# Altium integrated library Panasonic Microcontroller 32-Bit ARM.IntLib: 1 symbol
Pins are listed as number, name and electrical type; pins without a type are passive.

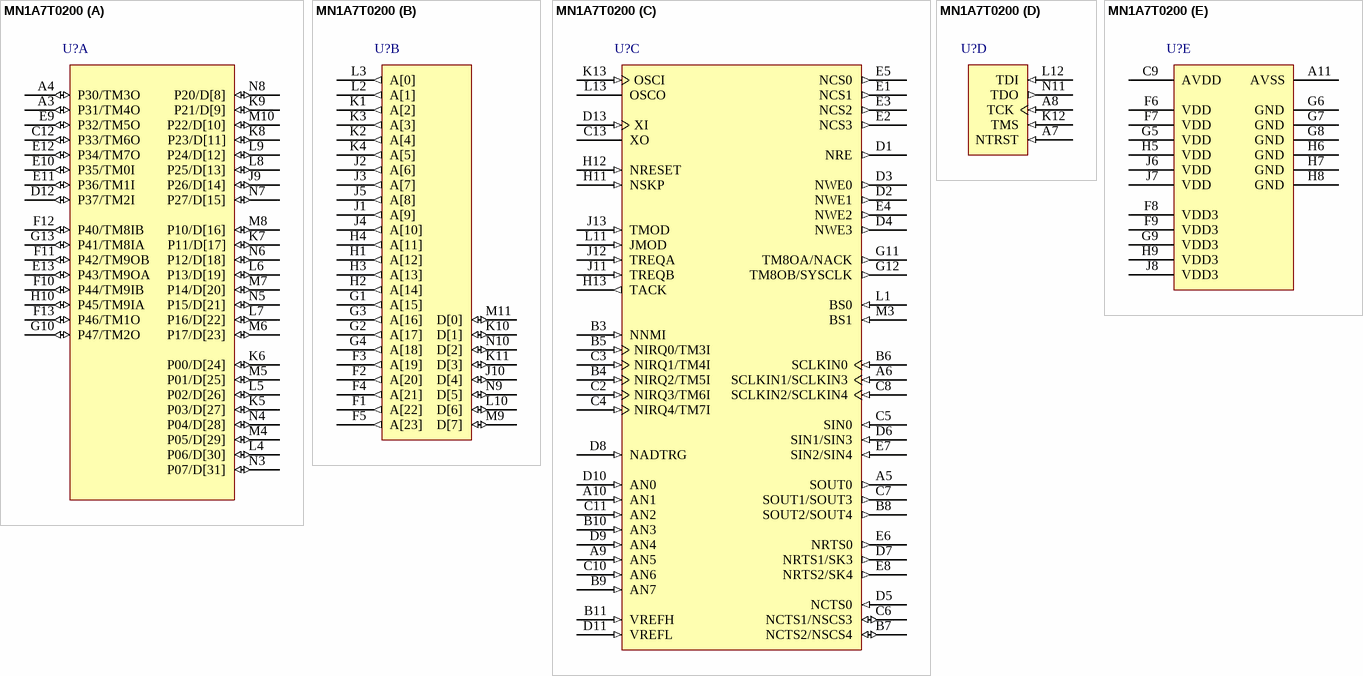
[diagram p0: symbol MN1A7T0200]

## MN1A7T0200
designator U?
ARM7TDMI with 32-bit ARM or 16-bit THUMB state operation, 152-pad FLGA; Published: 12-Dec-2006; DatasheetVersion: Sep-2001; PackageVersion: Sep-2001; PackageReference: FLGA152-C-1111; Publisher: Altium Limited; PackageDescription: 152-Ball Ball Grid Array 0.8 mm Pitch; ComponentLink1Description: Manufacturer Link; ComponentLink1URL: http://www.panasonic.co.jp/semicon/e-index.html; ComponentLink2Description: Datasheet; ComponentLink2URL: https://www.semicon.panasonic.co.jp/micom/manual/pdf/26002-024e.pdf
footprint FLGA152-C-1111 (BGA, 152-Leads, Body 11x11mm, Pitch 0.8mm)
part A pins: A3 P31/TM4O (io), A4 P30/TM3O (io), C12 P33/TM6O (io), D12 P37/TM2I (io), E9 P32/TM5O (io), E10 P35/TM0I (io), E11 P36/TM1I (io), E12 P34/TM7O (io), E13 P43/TM9OA (io), F10 P44/TM9IB (io), F11 P42/TM9OB (io), F12 P40/TM8IB (io), F13 P46/TM1O (io), G10 P47/TM2O (io), G13 P41/TM8IA (io), H10 P45/TM9IA (io), J9 P26/D[14] (io), K5 P03/D[27] (io), K6 P00/D[24] (io), K7 P11/D[17] (io), K8 P23/D[11] (io), K9 P21/D[9] (io), L4 P06/D[30] (io), L5 P02/D[26] (io), L6 P13/D[19] (io), L7 P16/D[22] (io), L8 P25/D[13] (io), L9 P24/D[12] (io), M4 P05/D[29] (io), M5 P01/D[25] (io), M6 P17/D[23] (io), M7 P14/D[20] (io), M8 P10/D[16] (io), M10 P22/D[10] (io), N3 P07/D[31] (io), N4 P04/D[28] (io), N5 P15/D[21] (io), N6 P12/D[18] (io), N7 P27/D[15] (io), N8 P20/D[8] (io)
part B pins: F1 A[22] (out), F2 A[20] (out), F3 A[19] (out), F4 A[21] (out), F5 A[23] (out), G1 A[15] (out), G2 A[17] (out), G3 A[16] (out), G4 A[18] (out), H1 A[12] (out), H2 A[14] (out), H3 A[13] (out), H4 A[11] (out), J1 A[9] (out), J2 A[6] (out), J3 A[7] (out), J4 A[10] (out), J5 A[8] (out), J10 D[4] (io), K1 A[2] (out), K2 A[4] (out), K3 A[3] (out), K4 A[5] (out), K10 D[1] (io), K11 D[3] (io), L2 A[1] (out), L3 A[0] (out), L10 D[6] (io), M9 D[7] (io), M11 D[0] (io), N9 D[5] (io), N10 D[2] (io)
part C pins: A5 SOUT0 (out), A6 SCLKIN1/SCLKIN3 (in), A9 AN5 (in), A10 AN1 (in), B3 NNMI (in), B4 NIRQ2/TM5I (in), B5 NIRQ0/TM3I (in), B6 SCLKIN0 (in), B7 NCTS2/NSCS4 (io), B8 SOUT2/SOUT4 (out), B9 AN7 (in), B10 AN3 (in), B11 VREFH (in), C2 NIRQ3/TM6I (in), C3 NIRQ1/TM4I (in), C4 NIRQ4/TM7I (in), C5 SIN0 (in), C6 NCTS1/NSCS3 (io), C7 SOUT1/SOUT3 (out), C8 SCLKIN2/SCLKIN4 (in), C10 AN6 (in), C11 AN2 (in), C13 XO, D1 NRE (out), D2 NWE1 (out), D3 NWE0 (out), D4 NWE3 (out), D5 NCTS0 (in), D6 SIN1/SIN3 (in), D7 NRTS1/SK3 (out), D8 NADTRG (in), D9 AN4 (in), D10 AN0 (in), D11 VREFL (in), D13 XI (in), E1 NCS1 (out), E2 NCS3 (out), E3 NCS2 (out), E4 NWE2 (out), E5 NCS0 (out), E6 NRTS0 (out), E7 SIN2/SIN4 (in), E8 NRTS2/SK4 (out), G11 TM8OA/NACK (out), G12 TM8OB/SYSCLK (out), H11 NSKP (in), H12 NRESET (in), H13 TACK (out), J11 TREQB (in), J12 TREQA (in), J13 TMOD (in), K13 OSCI (in), L1 BS0 (in), L11 JMOD (in), L13 OSCO, M3 BS1 (in)
part D pins: A7 NTRST (in), A8 TCK (in), K12 TMS (in), L12 TDI (in), N11 TDO (out)
part E pins: A11 AVSS (power), C9 AVDD (power), F6 VDD (power), F7 VDD (power), F8 VDD3 (power), F9 VDD3 (power), G5 VDD (power), G6 GND (power), G7 GND (power), G8 GND (power), G9 VDD3 (power), H5 VDD (power), H6 GND (power), H7 GND (power), H8 GND (power), H9 VDD3 (power), J6 VDD (power), J7 VDD (power), J8 VDD3 (power)